# Altium integrated library SAMTEC-A-TSW-103-07-F-S.IntLib: 1 symbol
Pins are listed as number, name and electrical type; pins without a type are passive.

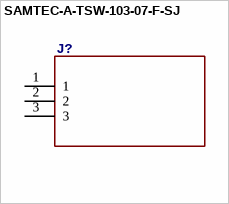
[diagram p0: symbol SAMTEC-A-TSW-103-07-F-SJ]

## SAMTEC-A-TSW-103-07-F-SJ
designator J?
footprint SAMTEC-A-TSW-103-07-F-S
pins: 1, 2, 3